# EAGLE library part PIC16*610 (library microchip)
Microchip PIC16F610 and PIC16HV610 14-pin 8-bit Flash microcontroller 1024 words program memory, 64 bytes RAM 11 I/O, 2 comparators, 1 8-bit timer, 1 16-bit timer High-voltage variant (HV) available
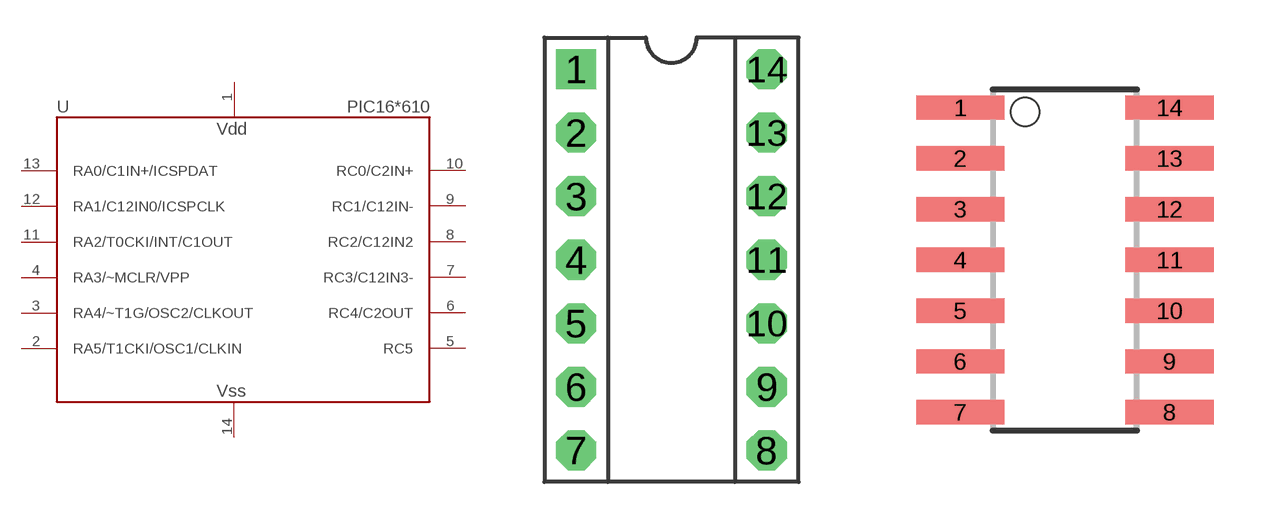
[diagram p17: symbol with the pads of DIP-14; footprints DIP-14, SOIC-14]

Designator prefix U

## PIC16610P  [DIP-14]
1  VDD  pwr
2  RA5/T1CKI/OSC1/CLKIN
3  RA4/~T1G/OSC2/CLKOUT
4  RA3/~MCLR/VPP  in
5  RC5
6  RC4/C2OUT
7  RC3/C12IN3-
8  RC2/C12IN2
9  RC1/C12IN-
10  RC0/C2IN+
11  RA2/T0CKI/INT/C1OUT
12  RA1/C12IN0/ICSPCLK
13  RA0/C1IN+/ICSPDAT
14  VSS  pwr

## PIC16610SL  [SOIC-14]
Pads as for DIP-14

## Footprint DIP-14 (pad centres in mm)
DIP-14
drill 0.813 pad 1.6 square: 1 -3.81,7.62
drill 0.813 pad 1.6 octagon: 2 -3.81,5.08; 3 -3.81,2.54; 4 -3.81,0; 5 -3.81,-2.54; 6 -3.81,-5.08; 7 -3.81,-7.62; 8 3.81,-7.62; 9 3.81,-5.08; 10 3.81,-2.54; 11 3.81,0; 12 3.81,2.54; 13 3.81,5.08; 14 3.81,7.62

## Footprint SOIC-14 (pad centres in mm)
SOIC-14
smd 2.21 x 0.61: 1 -2.616,4.445; 2 -2.616,3.175; 3 -2.616,1.905; 4 -2.616,0.635; 5 -2.616,-0.635; 6 -2.616,-1.905; 7 -2.616,-3.175; 8 2.616,-3.175; 9 2.616,-1.905; 10 2.616,-0.635; 11 2.616,0.635; 12 2.616,1.905; 13 2.616,3.175; 14 2.616,4.445